# Altium footprint library MicroSD_Module.PcbLib: 1 footprints
Each footprint in its own frame and in the unit in brackets; x right, y up, seen from the top. Pads: shape width x height; smd on the part's side, far side on the other; paste and mask are expansions set on the pad; w line width, h text height; cw(c..) or ccw(c..) is an arc to the next point about the centre after c.
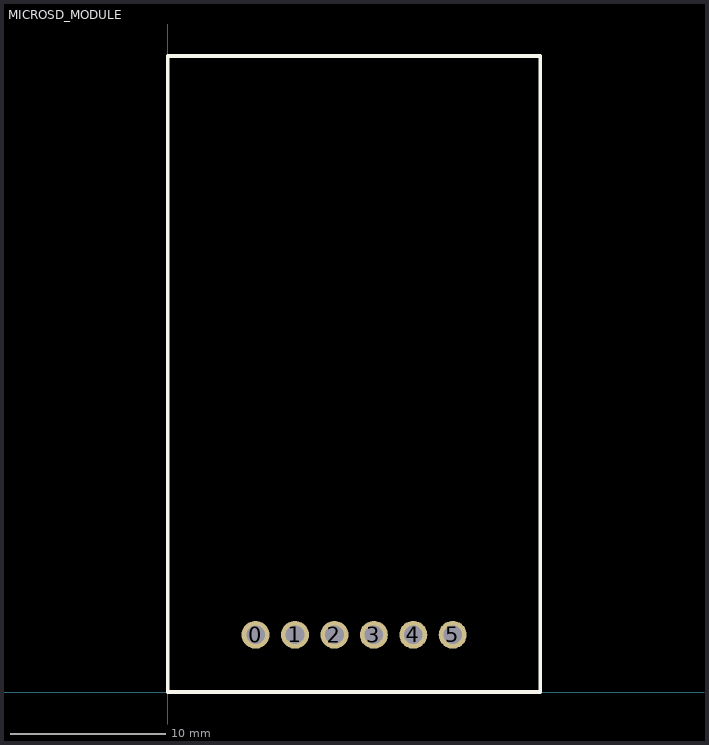
[diagram p0: the footprint, top view; thin cyan lines are the x and y axes]

## MICROSD_MODULE [mm]
pads (6):
  round 1.8 hole 1.2: 0(5.66,3.7) 1(8.2,3.7) 2(10.74,3.7) 3(13.28,3.7) 4(15.82,3.7) 5(18.36,3.7)
Top Overlay:
  lines w0.254: 0,0 0,41 24,41 24,0 0,0
3D body "??????? micro SD.STEP": height 6.25, standoff -1.5, extent 0,-4.3 24,41.65